# EAGLE library part 282834-8 (library LTM4607)
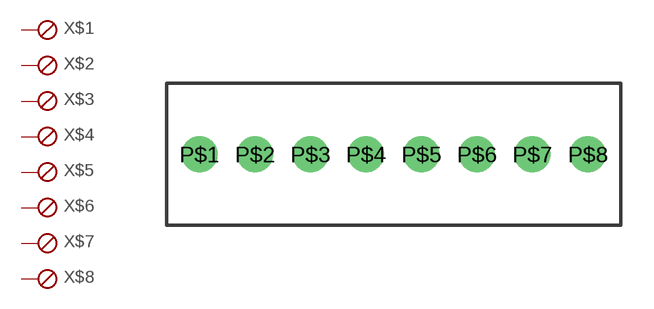
[diagram p5: symbol with the pads of 282834-8; footprint 282834-8]

Designator prefix X; gates $1=SKB $2=SKB $3=SKB $4=SKB $5=SKB $6=SKB $7=SKB $8=SKB

## 282834-8  [282834-8]
P$1  $1:1  pas
P$2  $2:1  pas
P$3  $3:1  pas
P$4  $4:1  pas
P$5  $5:1  pas
P$6  $6:1  pas
P$7  $7:1  pas
P$8  $8:1  pas

## Footprint 282834-8 (pad centres in mm)
drill 1.1: P$1 -8.89,0; P$2 -6.35,0; P$3 -3.81,0; P$4 -1.27,0; P$5 1.27,0; P$6 3.81,0; P$7 6.35,0; P$8 8.89,0